# EAGLE library part DP-XC9572-BREAKOUT (library steves)
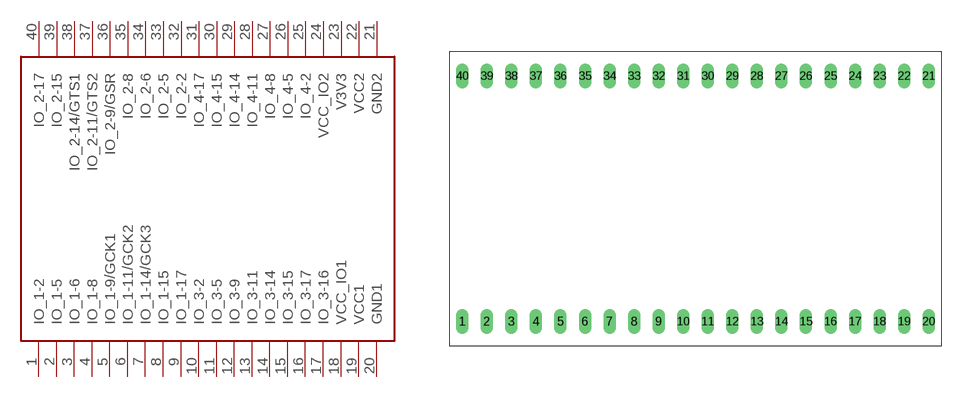
[diagram p17: symbol with the pads of DIP40-10; footprint DIP40-10]

Designator prefix -

## DP-XC9572-BREAKOUT  [DIP40-10]
1  IO_1-2
2  IO_1-5
3  IO_1-6
4  IO_1-8
5  IO_1-9/GCK1
6  IO_1-11/GCK2
7  IO_1-14/GCK3
8  IO_1-15
9  IO_1-17
10  IO_3-2
11  IO_3-5
12  IO_3-9
13  IO_3-11
14  IO_3-14
15  IO_3-15
16  IO_3-17
17  IO_3-16
18  VCC_IO1
19  VCC1
20  GND1
21  GND2
22  VCC2
23  V3V3
24  VCC_IO2
25  IO_4-2
26  IO_4-5
27  IO_4-8
28  IO_4-11
29  IO_4-14
30  IO_4-15
31  IO_4-17
32  IO_2-2
33  IO_2-5
34  IO_2-6
35  IO_2-8
36  IO_2-9/GSR
37  IO_2-11/GTS2
38  IO_2-14/GTS1
39  IO_2-15
40  IO_2-17

## Footprint DIP40-10 (pad centres in mm)
drill 0.8 long: 1 -24.13,-12.7; 2 -21.59,-12.7; 3 -19.05,-12.7; 4 -16.51,-12.7; 5 -13.97,-12.7; 6 -11.43,-12.7; 7 -8.89,-12.7; 8 -6.35,-12.7; 9 -3.81,-12.7; 10 -1.27,-12.7; 11 1.27,-12.7; 12 3.81,-12.7; 13 6.35,-12.7; 14 8.89,-12.7; 15 11.43,-12.7; 16 13.97,-12.7; 17 16.51,-12.7; 18 19.05,-12.7; 19 21.59,-12.7; 20 24.13,-12.7; 21 24.13,12.7; 22 21.59,12.7; 23 19.05,12.7; 24 16.51,12.7; 25 13.97,12.7; 26 11.43,12.7; 27 8.89,12.7; 28 6.35,12.7; 29 3.81,12.7; 30 1.27,12.7; 31 -1.27,12.7; 32 -3.81,12.7; 33 -6.35,12.7; 34 -8.89,12.7; 35 -11.43,12.7; 36 -13.97,12.7; 37 -16.51,12.7; 38 -19.05,12.7; 39 -21.59,12.7; 40 -24.13,12.7